# Altium schematic symbol library Sensor_Temperature.SchLib: 110 symbols
Pins are listed as number, name and electrical type; pins without a type are passive.

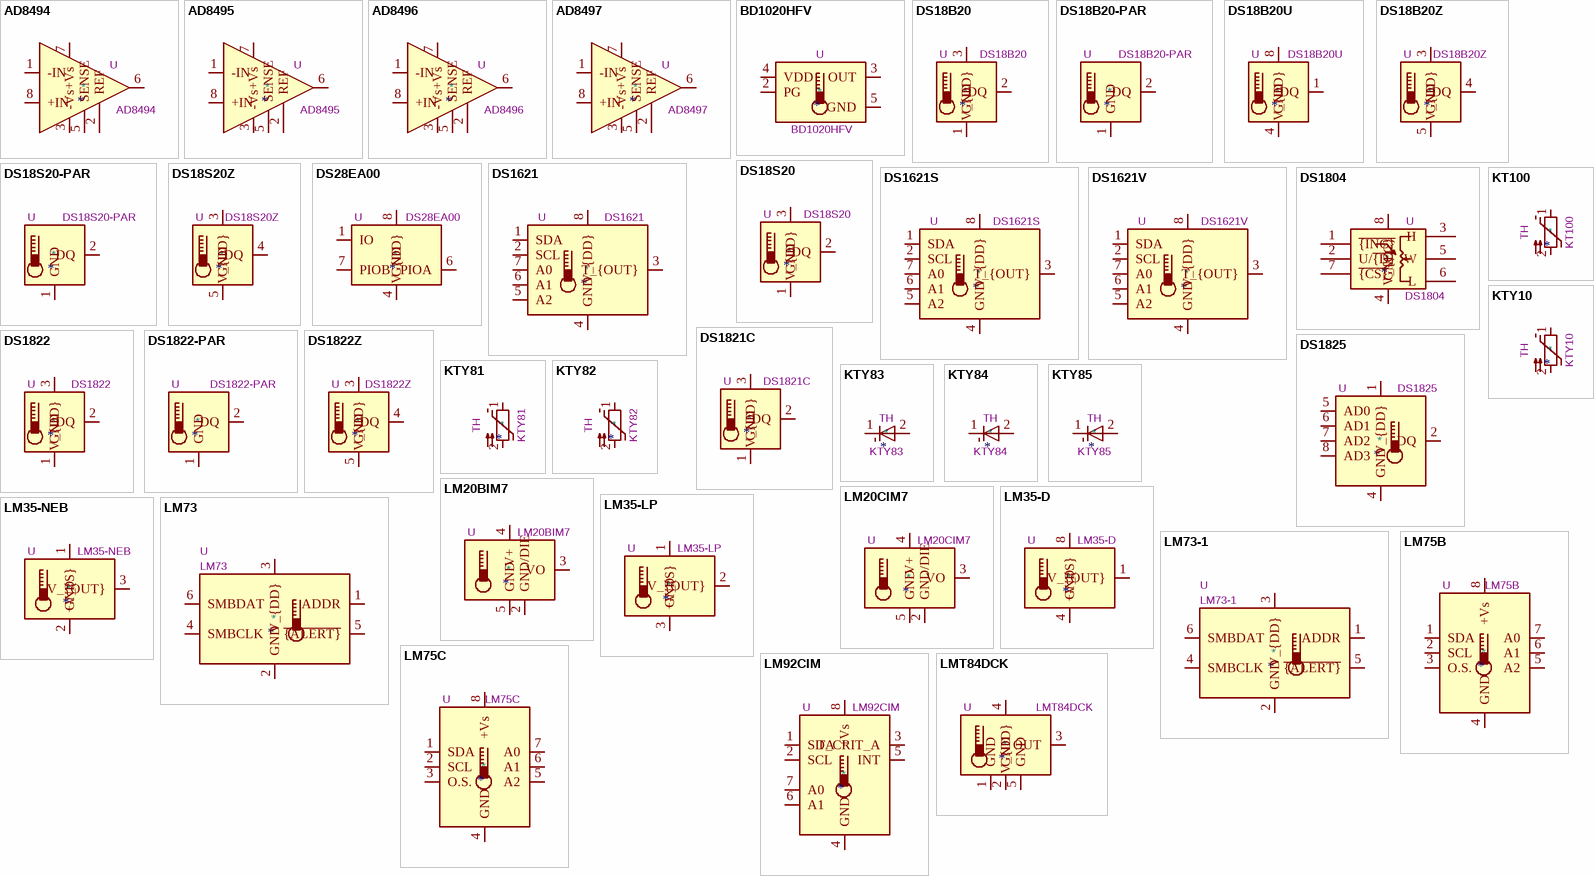
[diagram p0: symbols AD8494 to LMT84DCK]

## AD8494
designator *  value AD8494  Reference: U
ki_keywords: Thermocouple Amp; ki_description: Precision Thermocouple Amplifiers with Cold Junction Compensation, J-Type Thermocouple, 0 to 50C, MSOP-8; ki_fp_filters: MSOP*8*; Footprint: Package_SO:MSOP-8_3x3mm_P0.65mm; Datasheet: https://www.analog.com/media/en/technical-documentation/data-sheets/ad8494_8495_8496_8497.pdf
pins: 1 -IN, 2 REF, 3 -Vs, 4 NC hidden, 5 SENSE, 6, 7 +Vs, 8 +IN

## AD8495
designator *  value AD8495  Reference: U
ki_keywords: Thermocouple Amp; ki_description: Precision Thermocouple Amplifiers with Cold Junction Compensation, K-Type Thermocouple, 0 to 50C, MSOP-8; ki_fp_filters: MSOP*8*; Footprint: Package_SO:MSOP-8_3x3mm_P0.65mm; Datasheet: https://www.analog.com/media/en/technical-documentation/data-sheets/ad8494_8495_8496_8497.pdf
pins: 1 -IN, 2 REF, 3 -Vs, 4 NC hidden, 5 SENSE, 6, 7 +Vs, 8 +IN

## AD8496
designator *  value AD8496  Reference: U
ki_keywords: Thermocouple Amp; ki_description: Precision Thermocouple Amplifiers with Cold Junction Compensation, J-Type Thermocouple, 25 to 100C, MSOP-8; ki_fp_filters: MSOP*8*; Footprint: Package_SO:MSOP-8_3x3mm_P0.65mm; Datasheet: https://www.analog.com/media/en/technical-documentation/data-sheets/ad8494_8495_8496_8497.pdf
pins: 1 -IN, 2 REF, 3 -Vs, 4 NC hidden, 5 SENSE, 6, 7 +Vs, 8 +IN

## AD8497
designator *  value AD8497  Reference: U
ki_keywords: Thermocouple Amp; ki_description: Precision Thermocouple Amplifiers with Cold Junction Compensation, K-Type Thermocouple, 25 to 100C, MSOP-8; ki_fp_filters: MSOP*8*; Footprint: Package_SO:MSOP-8_3x3mm_P0.65mm; Datasheet: https://www.analog.com/media/en/technical-documentation/data-sheets/ad8494_8495_8496_8497.pdf
pins: 1 -IN, 2 REF, 3 -Vs, 4 NC hidden, 5 SENSE, 6, 7 +Vs, 8 +IN

## BD1020HFV
designator *  value BD1020HFV  Reference: U
ki_keywords: Temperature sensor; ki_description: Analog Output Temperature Sensor; ki_fp_filters: HVSOF5*; Footprint: Package_TO_SOT_SMD:HVSOF5; Datasheet: http://rohmfs.rohm.com/en/products/databook/datasheet/ic/sensor/temperature/bd1020hfv-e.pdf
pins: 1 NC hidden, 2 PG, 3 OUT, 4 VDD, 5 GND

## DS18B20
designator *  value DS18B20  Reference: U
ki_keywords: OneWire 1Wire Dallas Maxim; ki_description: Programmable Resolution 1-Wire Digital Thermometer TO-92; ki_fp_filters: TO*92*; Footprint: Package_TO_SOT_THT:TO-92_Inline; Datasheet: http://datasheets.maximintegrated.com/en/ds/DS18B20.pdf
pins: 1 GND, 2 DQ, 3 V_{DD}

## DS18B20-PAR
designator *  value DS18B20-PAR  Reference: U
ki_keywords: OneWire 1Wire Maxim Dallas; ki_description: 1-Wire Parasite-Power Digital Thermometer TO-92; ki_fp_filters: TO*92*; Footprint: Package_TO_SOT_THT:TO-92_Inline; Datasheet: http://datasheets.maximintegrated.com/en/ds/DS18B20-PAR.pdf
pins: 1 GND, 2 DQ, 3 NC hidden

## DS18B20U
designator *  value DS18B20U  Reference: U
ki_keywords: OneWire 1-Wire 1Wire Maxim Dallas; ki_description: Programmable Resolution 1-Wire Digital Thermometer MSOP-8; ki_fp_filters: MSOP*3x3mm*P0.65mm*; Footprint: Package_SO:MSOP-8_3x3mm_P0.65mm; Datasheet: http://datasheets.maximintegrated.com/en/ds/DS18B20.pdf
pins: 1 DQ, 2 NC hidden, 3 NC hidden, 4 GND, 5 NC hidden, 6 NC hidden, 7 NC hidden, 8 V_{DD}

## DS18B20Z
designator *  value DS18B20Z  Reference: U
ki_keywords: OneWire 1Wire Maxim Dallas; ki_description: Programmable Resolution 1-Wire Digital Thermometer SOIC-8; ki_fp_filters: SOIC*3.9x4.9mm*P1.27mm*; Footprint: Package_SO:SOIC-8_3.9x4.9mm_P1.27mm; Datasheet: http://datasheets.maximintegrated.com/en/ds/DS18B20.pdf
pins: 1 NC hidden, 2 NC hidden, 3 V_{DD}, 4 DQ, 5 GND, 6 NC hidden, 7 NC hidden, 8 NC hidden

## DS18S20
designator *  value DS18S20  Reference: U
ki_keywords: OneWire 1Wire Maxim Dallas; ki_description: High-Precision 1-Wire Digital Thermometer TO-92; ki_fp_filters: TO*92*; Footprint: Package_TO_SOT_THT:TO-92_Inline; Datasheet: http://datasheets.maximintegrated.com/en/ds/DS18S20.pdf
pins: 1 GND, 2 DQ, 3 V_{DD}

## DS18S20-PAR
designator *  value DS18S20-PAR  Reference: U
ki_keywords: OneWire 1Wire Maxim Dallas; ki_description: 1-Wire Parasite-Power Digital Thermometer TO-92; ki_fp_filters: TO*92*; Footprint: Package_TO_SOT_THT:TO-92_Inline; Datasheet: http://datasheets.maximintegrated.com/en/ds/DS18S20-PAR.pdf
pins: 1 GND, 2 DQ, 3 NC hidden

## DS18S20Z
designator *  value DS18S20Z  Reference: U
ki_keywords: OneWire 1Wire Dallas Maxim; ki_description: High-Precision 1-Wire Digital Thermometer SOIC-8; ki_fp_filters: SOIC*3.9x4.9mm*P1.27mm*; Footprint: Package_SO:SOIC-8_3.9x4.9mm_P1.27mm; Datasheet: http://datasheets.maximintegrated.com/en/ds/DS18S20.pdf
pins: 1 NC hidden, 2 NC hidden, 3 V_{DD}, 4 DQ, 5 GND, 6 NC hidden, 7 NC hidden, 8 NC hidden

## DS28EA00
designator *  value DS28EA00  Reference: U
ki_keywords: 1Wire OneWire Maxim Dallas; ki_description: 1-Wire Digital Thermometer with Sequence Detect and PIO; ki_fp_filters: MSOP*3x3mm*P0.65mm*; Footprint: Package_SO:MSOP-8_3x3mm_P0.65mm; Datasheet: http://datasheets.maximintegrated.com/en/ds/DS28EA00.pdf
pins: 1 IO, 2 NC hidden, 3 NC hidden, 4 GND, 5 NC hidden, 6 PIOA, 7 PIOB, 8 V_{DD}

## DS1621
designator *  value DS1621  Reference: U
ki_keywords: OneWire 1-Wire 1Wire Maxim Dallas; ki_description: 1-Wire Digital Thermometer and Thermostat, DIP-8; ki_fp_filters: DIP*W7.62mm*; Footprint: Package_DIP:DIP-8_W7.62mm; Datasheet: https://datasheets.maximintegrated.com/en/ds/DS1621.pdf
pins: 1 SDA, 2 SCL, 3 T_{OUT}, 4 GND, 5 A2, 6 A1, 7 A0, 8 V_{DD}

## DS1621S
designator *  value DS1621S  Reference: U
ki_keywords: OneWire 1-Wire 1Wire Maxim Dallas; ki_description: 1-Wire Digital Thermometer and Thermostat, SOIC-8; ki_fp_filters: SOIC*3.9x4.9mm*P1.27mm*; Footprint: Package_SO:SOIC-8_3.9x4.9mm_P1.27mm; Datasheet: https://datasheets.maximintegrated.com/en/ds/DS1621.pdf
pins: 1 SDA, 2 SCL, 3 T_{OUT}, 4 GND, 5 A2, 6 A1, 7 A0, 8 V_{DD}

## DS1621V
designator *  value DS1621V  Reference: U
ki_keywords: OneWire 1-Wire 1Wire Maxim Dallas; ki_description: 1-Wire Digital Thermometer and Thermostat, SO-8; ki_fp_filters: SO*5.3x6.2mm*P1.27mm*; Footprint: Package_SO:SO-8_5.3x6.2mm_P1.27mm; Datasheet: https://datasheets.maximintegrated.com/en/ds/DS1621.pdf
pins: 1 SDA, 2 SCL, 3 T_{OUT}, 4 GND, 5 A2, 6 A1, 7 A0, 8 V_{DD}

## DS1804
designator *  value DS1804  Reference: U
ki_description: Nonvolatile Trimmer Potentiometer, DIP-8; ki_fp_filters: DIP*W7.62mm*; Footprint: Package_DIP:DIP-8_W7.62mm; Datasheet: https://www.analog.com/media/en/technical-documentation/data-sheets/DS1804.pdf
pins: 1 ~{{INC}}, 2 U/~{{D}}, 3 H, 4 GND, 5 W, 6 L, 7 ~{{CS}}, 8 V_{CC}

## DS1821C
designator *  value DS1821C  Reference: U
ki_keywords: OneWire 1Wire Maxim Dallas; ki_description: Programmable Digital Thermostat and Thermometer TO-92; ki_fp_filters: TO*92*; Footprint: Package_TO_SOT_THT:TO-92_Inline; Datasheet: http://datasheets.maximintegrated.com/en/ds/DS1821.pdf
pins: 1 GND, 2 DQ, 3 V_{DD}

## DS1822
designator *  value DS1822  Reference: U
ki_keywords: OneWire 1Wire Dallas Maxim; ki_description: Econo 1-Wire Digital Thermometer TO-92; ki_fp_filters: TO*92*; Footprint: Package_TO_SOT_THT:TO-92_Inline; Datasheet: http://datasheets.maximintegrated.com/en/ds/DS1822.pdf
pins: 1 GND, 2 DQ, 3 V_{DD}

## DS1822-PAR
designator *  value DS1822-PAR  Reference: U
ki_keywords: OneWire 1Wire Maxim Dallas; ki_description: Econo 1-Wire Parasite-Power Digital Thermometer TO-92; ki_fp_filters: TO*92*; Footprint: Package_TO_SOT_THT:TO-92_Inline; Datasheet: http://datasheets.maximintegrated.com/en/ds/DS1822-PAR.pdf
pins: 1 GND, 2 DQ, 3 NC hidden

## DS1822Z
designator *  value DS1822Z  Reference: U
ki_keywords: OneWire 1-Wire 1Wire Maxim Dallas; ki_description: Econo 1-Wire Digital Thermometer SOIC-8; ki_fp_filters: SOIC*3.9x4.9mm*P1.27mm*; Footprint: Package_SO:SOIC-8_3.9x4.9mm_P1.27mm; Datasheet: http://datasheets.maximintegrated.com/en/ds/DS1822.pdf
pins: 1 NC hidden, 2 NC hidden, 3 V_{DD}, 4 DQ, 5 GND, 6 NC hidden, 7 NC hidden, 8 NC hidden

## DS1825
designator *  value DS1825  Reference: U
ki_keywords: 1Wire OneWire Maxim Dallas; ki_description: Programmable Resolution 1-Wire Digital Thermometer With 4-Bit ID MSOP-8; ki_fp_filters: MSOP*3x3mm*P0.65mm*; Footprint: Package_SO:MSOP-8_3x3mm_P0.65mm; Datasheet: http://datasheets.maximintegrated.com/en/ds/DS1825.pdf
pins: 1 V_{DD}, 2 DQ, 3 NC hidden, 4 GND, 5 AD0, 6 AD1, 7 AD2, 8 AD3

## KT100
designator *  value KT100  Reference: TH
ki_keywords: silicon temperature sensors; ki_description: KTY10/KT100 series silicon temperature sensors; ki_fp_filters: SOD?70*; Datasheet: http://www.b-kainka.de/Daten/Sensor/kty10.pdf
pins: 1, 2

## KTY10
designator *  value KTY10  Reference: TH
ki_keywords: silicon temperature sensors; ki_description: KTY10/KT100 series silicon temperature sensors; ki_fp_filters: SOD?70*; Datasheet: http://www.b-kainka.de/Daten/Sensor/kty10.pdf
pins: 1, 2

## KTY81
designator *  value KTY81  Reference: TH
ki_keywords: silicon temperature sensors; ki_description: KTY81 series silicon temperature sensors; ki_fp_filters: SOD?70*; Datasheet: https://www.nxp.com/docs/en/data-sheet/KTY81_SER.pdf
pins: 1, 2

## KTY82
designator *  value KTY82  Reference: TH
ki_keywords: silicon temperature sensors; ki_description: KTY82 series silicon temperature sensors, SOT-23; ki_fp_filters: SOT?23*; Footprint: Package_TO_SOT_SMD:SOT-23; Datasheet: https://www.nxp.com/docs/en/data-sheet/KTY82_SER.pdf
pins: 1, 2

## KTY83
designator *  value KTY83  Reference: TH
ki_keywords: silicon temperature sensors diode; ki_description: KTY83 series silicon temperature sensors, polarized, SOD68; ki_fp_filters: *DO?34*SOD68*; Footprint: Diode_THT:D_DO-34_SOD68_P7.62mm_Horizontal; Datasheet: https://www.nxp.com/docs/en/data-sheet/KTY83_SER.pdf
pins: 1 K, 2 A

## KTY84
designator *  value KTY84  Reference: TH
ki_keywords: silicon temperature sensor diode; ki_description: KTY84 series silicon temperature sensors, polarized, SOD68; ki_fp_filters: *DO?34*SOD68*; Footprint: Diode_THT:D_DO-34_SOD68_P7.62mm_Horizontal; Datasheet: https://www.nxp.com/docs/en/data-sheet/KTY84_SER.pdf
pins: 1 K, 2 A

## KTY85
designator *  value KTY85  Reference: TH
ki_keywords: silicon temperature sensor diode; ki_description: KTY85 series silicon temperature sensors, polarized, SOD80; ki_fp_filters: SOD80*; Footprint: Diode_SMD:D_MiniMELF; Datasheet: http://www.nxp.com/documents/other/SC17_GENERAL_TEMP_1996_3.pdf
pins: 1 K, 2 A

## LM20BIM7
designator *  value LM20BIM7  Reference: U
ki_keywords: temperature sensor thermistor; ki_description: Precision Temperature Sensor, Accuracy at 30°C ±1.5°C to ±4°C Maximum, SC70; ki_fp_filters: SOT?353*; Footprint: Package_TO_SOT_SMD:SOT-353_SC-70-5; Datasheet: http://www.ti.com/lit/ds/symlink/lm20.pdf
pins: 1 NC hidden, 2 GND/DIE, 3 VO, 4 V+, 5 GND

## LM20CIM7
designator *  value LM20CIM7  Reference: U
ki_keywords: temperature sensor thermistor; ki_description: Precision Temperature Sensor, Accuracy at 30°C ±4°C to ±5°C Maximum, SC70; ki_fp_filters: SOT?353*; Footprint: Package_TO_SOT_SMD:SOT-353_SC-70-5; Datasheet: http://www.ti.com/lit/ds/symlink/lm20.pdf
pins: 1 NC hidden, 2 GND/DIE, 3 VO, 4 V+, 5 GND

## LM35-D
designator *  value LM35-D  Reference: U
ki_keywords: temperature sensor thermistor; ki_description: Precision centigrade temperature sensor, SOIC-8; ki_fp_filters: SOIC*; Footprint: Package_SO:SOIC-8_3.9x4.9mm_P1.27mm; Datasheet: http://www.ti.com/lit/ds/symlink/lm35.pdf
pins: 1 V_{OUT}, 2 NC hidden, 3 NC hidden, 4 GND, 5 NC hidden, 6 NC hidden, 7 NC hidden, 8 +V_{S}

## LM35-LP
designator *  value LM35-LP  Reference: U
ki_keywords: temperature sensor thermistor; ki_description: Precision centigrade temperature sensor, TO-92; ki_fp_filters: TO?92*; Footprint: Package_TO_SOT_THT:TO-92_Inline; Datasheet: http://www.ti.com/lit/ds/symlink/lm35.pdf
pins: 1 +V_{S}, 2 V_{OUT}, 3 GND

## LM35-NEB
designator *  value LM35-NEB  Reference: U
ki_keywords: temperature sensor thermistor; ki_description: Precision centigrade temperature sensor, TO-220; ki_fp_filters: TO?220*; Footprint: Package_TO_SOT_THT:TO-220-3_Vertical; Datasheet: http://www.ti.com/lit/ds/symlink/lm35.pdf
pins: 1 +V_{S}, 2 GND, 3 V_{OUT}

## LM73
designator *  value LM73  Reference: U
ki_keywords: digital temperature sensor; ki_description: 11 to 14 Bit digital temperature sensor with 2 wire interface, SOT23-6; ki_fp_filters: SOT?23*; Footprint: Package_TO_SOT_SMD:SOT-23-6; Datasheet: http://www.ti.com/lit/ds/symlink/lm73.pdf
pins: 1 ADDR, 2 GND, 3 V_{DD}, 4 SMBCLK, 5 ~{{ALERT}}, 6 SMBDAT

## LM73-1
designator *  value LM73-1  Reference: U
ki_keywords: digital temperature sensor; ki_description: 11 to 14 Bit digital temperature sensor with 2 wire interface, SOT23-6; ki_fp_filters: SOT?23*; Footprint: Package_TO_SOT_SMD:SOT-23-6; Datasheet: http://www.ti.com/lit/ds/symlink/lm73.pdf
pins: 1 ADDR, 2 GND, 3 V_{DD}, 4 SMBCLK, 5 ~{{ALERT}}, 6 SMBDAT

## LM75B
designator *  value LM75B  Reference: U
ki_keywords: Temperature sensor; ki_description: Digital Temperature Sensor & Thermal Watchdog with LP on I2C and bus fault timeout, SOIC-8 and VSSOP-8; ki_fp_filters: SOIC*3.9x4.9mm*P1.27mm* VSSOP*3.0x3.0mm*P0.65mm*; Datasheet: http://www.ti.com/lit/ds/symlink/lm75b.pdf
pins: 1 SDA, 2 SCL, 3 O.S., 4 GND, 5 A2, 6 A1, 7 A0, 8 +Vs

## LM75C
designator *  value LM75C  Reference: U
ki_keywords: Temperature sensor; ki_description: Digital Temperature Sensor & Thermal Watchdog, SOIC-8 and VSSOP-8; ki_fp_filters: SOIC*3.9x4.9mm*P1.27mm* VSSOP*3.0x3.0mm*P0.65mm*; Datasheet: http://www.ti.com/lit/ds/symlink/lm75b.pdf
pins: 1 SDA, 2 SCL, 3 O.S., 4 GND, 5 A2, 6 A1, 7 A0, 8 +Vs

## LM92CIM
designator *  value LM92CIM  Reference: U
ki_keywords: temperature sensor; ki_description: Digital Temperature Sensor and Thermal Window Comparator With Two-Wire (I2C) Interface, SOIC-8; ki_fp_filters: SOIC*3.9x4.9mm*P1.27mm*; Footprint: Package_SO:SOIC-8_3.9x4.9mm_P1.27mm; Datasheet: https://www.ti.com/lit/ds/symlink/lm92.pdf
pins: 1 SDA, 2 SCL, 3 T_CRIT_A, 4 GND, 5 INT, 6 A1, 7 A0, 8 +Vs

## LMT84DCK
designator *  value LMT84DCK  Reference: U
ki_keywords: temperature sensor thermistor ntc; ki_description: Analog temperature sensor, NTC, 0.4C accuracy, -5.5mV/C, -50C to +150C, 1.5 to 5.5V, SC-70-5; ki_fp_filters: *SC?70*; Footprint: Package_TO_SOT_SMD:SOT-353_SC-70-5; Datasheet: http://www.ti.com/lit/ds/symlink/lmt84.pdf
pins: 1 GND, 2 GND, 3 OUT, 4 V_{DD}, 5 GND

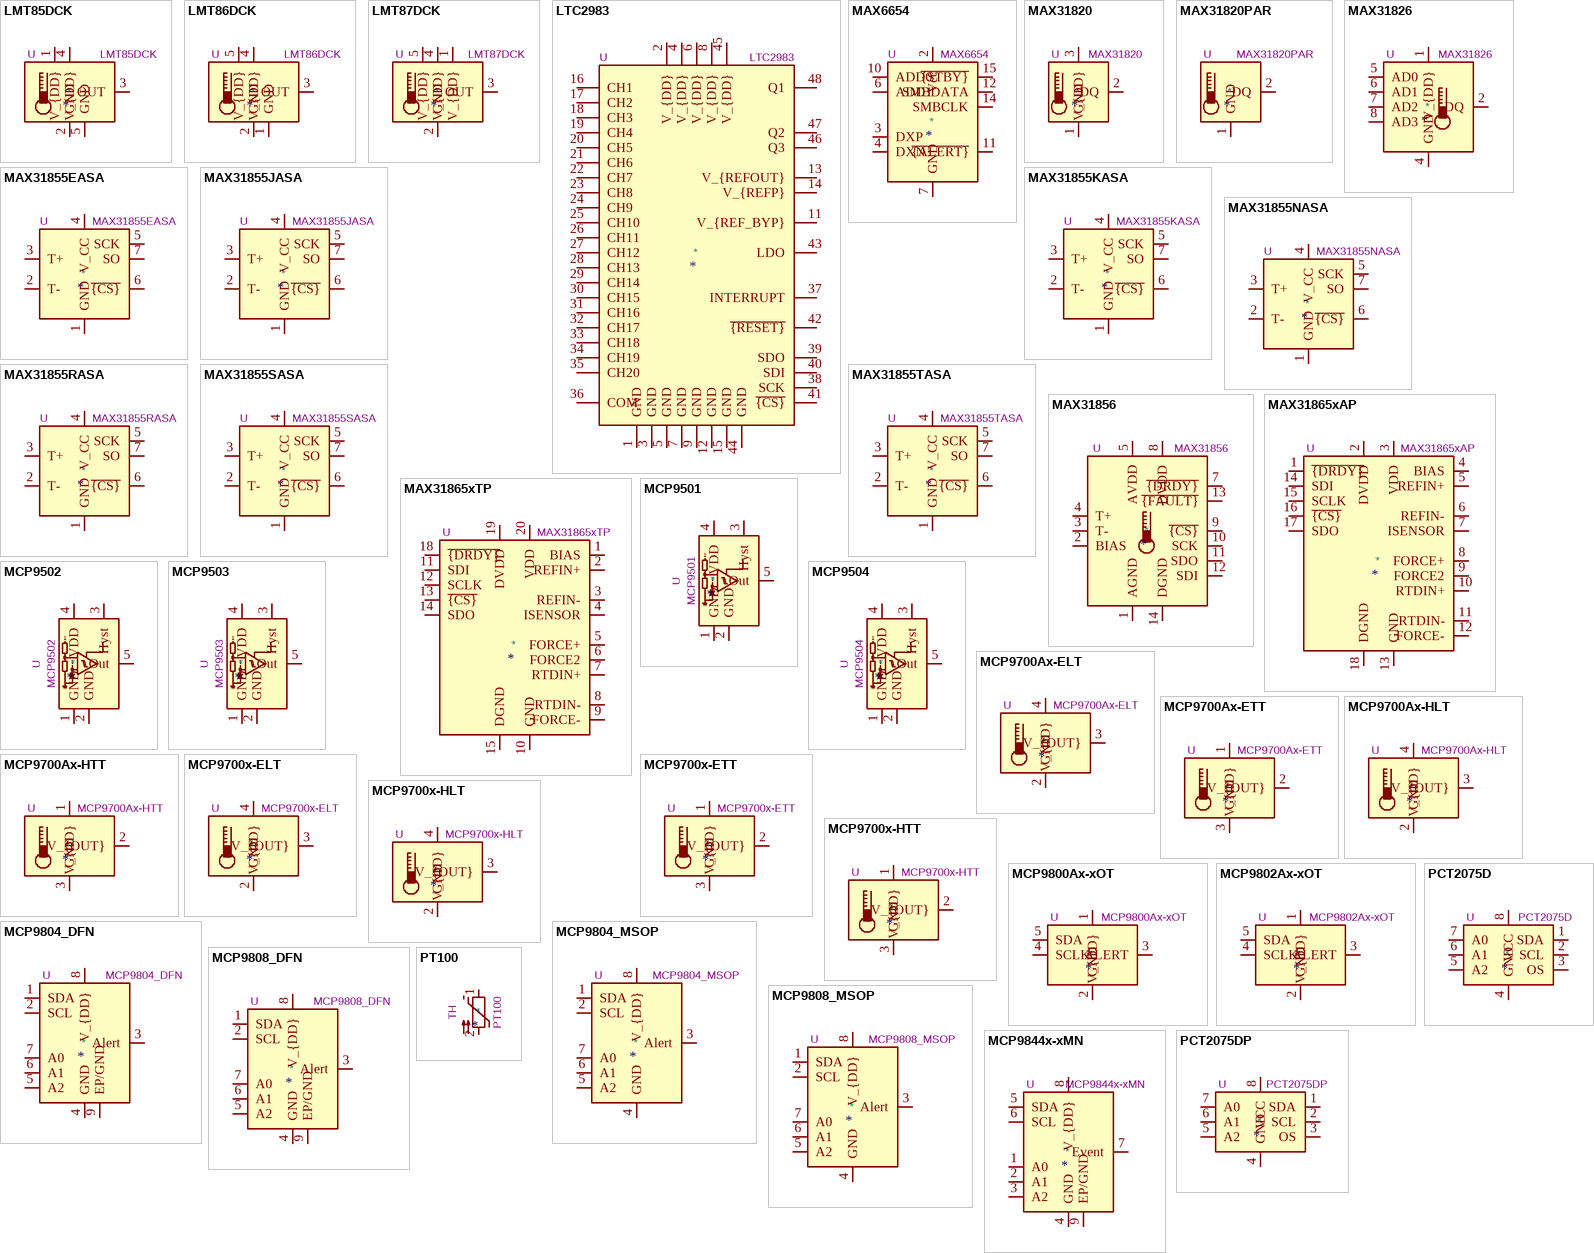
[diagram p1: symbols LMT85DCK to PT100]

## LMT85DCK
designator *  value LMT85DCK  Reference: U
ki_keywords: temperature sensor thermistor ntc; ki_description: Analog temperature sensor, NTC, 0.3C accuracy, -8.2mV/C, -50C to +150C, 1.8 to 5.5V, SC-70-5; ki_fp_filters: *SC?70*; Footprint: Package_TO_SOT_SMD:SOT-353_SC-70-5; Datasheet: http://www.ti.com/lit/ds/symlink/lmt85-q1.pdf
pins: 1 V_{DD}, 2 GND, 3 OUT, 4 V_{DD}, 5 GND

## LMT86DCK
designator *  value LMT86DCK  Reference: U
ki_keywords: temperature sensor thermistor ntc; ki_description: Analog temperature sensor, NTC, 0.25C accuracy, -10.9mV/C, -50C to +150C, 2.2 to 5.5V, SC-70-5; ki_fp_filters: *SC?70*; Footprint: Package_TO_SOT_SMD:SOT-353_SC-70-5; Datasheet: http://www.ti.com/lit/ds/symlink/lmt86-q1.pdf
pins: 1 GND, 2 GND, 3 OUT, 4 V_{DD}, 5 V_{DD}

## LMT87DCK
designator *  value LMT87DCK  Reference: U
ki_keywords: temperature sensor thermistor ntc; ki_description: Analog temperature sensor, NTC, 0.3C accuracy, -13.6mV/C, -50C to +150C, 2.7 to 5.5V, SC-70-5; ki_fp_filters: *SC?70*; Footprint: Package_TO_SOT_SMD:SOT-353_SC-70-5; Datasheet: http://www.ti.com/lit/ds/symlink/lmt87-q1.pdf
pins: 1 V_{DD}, 2 GND, 3 OUT, 4 V_{DD}, 5 V_{DD}

## LTC2983
designator *  value LTC2983  Reference: U
ki_keywords: Flexible Temperature Measurement RTD NTC Cold Junction Termocouple; ki_description: Multi-Sensor Temperature Measurement System, High Accuracy, LQFP-48 (7x7mm); ki_fp_filters: LQFP*7x7mm*P0.5mm*; Footprint: Package_QFP:LQFP-48_7x7mm_P0.5mm; Datasheet: https://www.analog.com/media/en/technical-documentation/data-sheets/2983fc.pdf
pins: 1 GND, 2 V_{DD}, 3 GND, 4 V_{DD}, 5 GND, 6 V_{DD}, 7 GND, 8 V_{DD}, 9 GND, 10 NC hidden, 11 V_{REF_BYP}, 12 GND, 13 V_{REFOUT}, 14 V_{REFP}, 15 GND, 16 CH1, 17 CH2, 18 CH3, 19 CH4, 20 CH5, 21 CH6, 22 CH7, 23 CH8, 24 CH9, 25 CH10, 26 CH11, 27 CH12, 28 CH13, 29 CH14, 30 CH15, 31 CH16, 32 CH17, 33 CH18, 34 CH19, 35 CH20, 36 COM, 37 INTERRUPT, 38 SCK, 39 SDO, 40 SDI, 41 ~{{CS}}, 42 ~{{RESET}}, 43 LDO, 44 GND, 45 V_{DD}, 46 Q3, 47 Q2, 48 Q1

## MAX6654
designator *  value MAX6654  Reference: U
ki_keywords: I2C SMBus Serial; ki_description: Remote and Local Temperature Sensor, SSOP-16; ki_fp_filters: *SOP*3.9x4.9mm*P0.635mm*; Footprint: Package_SO:SSOP-16_3.9x4.9mm_P0.635mm; Datasheet: https://datasheets.maximintegrated.com/en/ds/MAX6654.pdf
pins: 1 NC hidden, 2 Vcc, 3 DXP, 4 DXN, 5 NC hidden, 6 ADD1, 7 GND, 8 GND hidden, 9 NC hidden, 10 ADD0, 11 ~{{ALERT}}, 12 SMBDATA, 13 NC hidden, 14 SMBCLK, 15 ~{{STBY}}, 16 NC hidden

## MAX31820
designator *  value MAX31820  Reference: U
ki_keywords: OneWire 1-Wire 1Wire Maxim Dallas; ki_description: 1-Wire Ambient Temperature Sensor TO-92; ki_fp_filters: TO*92*; Footprint: Package_TO_SOT_THT:TO-92_Inline; Datasheet: http://datasheets.maximintegrated.com/en/ds/MAX31820.pdf
pins: 1 GND, 2 DQ, 3 V_{DD}

## MAX31820PAR
designator *  value MAX31820PAR  Reference: U
ki_keywords: OneWire 1-Wire 1Wire Maxim Dallas; ki_description: 1-Wire, Parasite-Power, Ambient Temperature Sensor TO-92; ki_fp_filters: TO*92*; Footprint: Package_TO_SOT_THT:TO-92_Inline; Datasheet: http://datasheets.maximintegrated.com/en/ds/MAX31820PAR.pdf
pins: 1 GND, 2 DQ, 3 NC hidden

## MAX31826
designator *  value MAX31826  Reference: U
ki_keywords: 1Wire OneWire Maxim Dallas; ki_description: 1-Wire Digital Temperature Sensor with 1Kb Lockable EEPROM MSOP-8; ki_fp_filters: MSOP*3x3mm*P0.65mm*; Footprint: Package_SO:MSOP-8_3x3mm_P0.65mm; Datasheet: http://datasheets.maximintegrated.com/en/ds/MAX31826.pdf
pins: 1 V_{DD}, 2 DQ, 3 NC hidden, 4 GND, 5 AD0, 6 AD1, 7 AD2, 8 AD3

## MAX31855EASA
designator *  value MAX31855EASA  Reference: U
ki_keywords: Cold Junction Termocouple Interface SPI; ki_description: Cold Junction E-type Termocouple Interface, SPI, SO8; ki_fp_filters: SOIC*3.9x4.9mm*P1.27mm*; Footprint: Package_SO:SOIC-8_3.9x4.9mm_P1.27mm; Datasheet: http://datasheets.maximintegrated.com/en/ds/MAX31855.pdf
pins: 1 GND, 2 T-, 3 T+, 4 V_CC, 5 SCK, 6 ~{{CS}}, 7 SO

## MAX31855JASA
designator *  value MAX31855JASA  Reference: U
ki_keywords: Cold Junction Termocouple Interface SPI; ki_description: Cold Junction J-type Termocouple Interface, SPI, SO8; ki_fp_filters: SOIC*3.9x4.9mm*P1.27mm*; Footprint: Package_SO:SOIC-8_3.9x4.9mm_P1.27mm; Datasheet: http://datasheets.maximintegrated.com/en/ds/MAX31855.pdf
pins: 1 GND, 2 T-, 3 T+, 4 V_CC, 5 SCK, 6 ~{{CS}}, 7 SO

## MAX31855KASA
designator *  value MAX31855KASA  Reference: U
ki_keywords: Cold Junction Termocouple Interface SPI; ki_description: Cold Junction K-type Termocouple Interface, SPI, SO8; ki_fp_filters: SOIC*3.9x4.9mm*P1.27mm*; Footprint: Package_SO:SOIC-8_3.9x4.9mm_P1.27mm; Datasheet: http://datasheets.maximintegrated.com/en/ds/MAX31855.pdf
pins: 1 GND, 2 T-, 3 T+, 4 V_CC, 5 SCK, 6 ~{{CS}}, 7 SO

## MAX31855NASA
designator *  value MAX31855NASA  Reference: U
ki_keywords: Cold Junction Termocouple Interface SPI; ki_description: Cold Junction N-type Termocouple Interface, SPI, SO8; ki_fp_filters: SOIC*3.9x4.9mm*P1.27mm*; Footprint: Package_SO:SOIC-8_3.9x4.9mm_P1.27mm; Datasheet: http://datasheets.maximintegrated.com/en/ds/MAX31855.pdf
pins: 1 GND, 2 T-, 3 T+, 4 V_CC, 5 SCK, 6 ~{{CS}}, 7 SO

## MAX31855RASA
designator *  value MAX31855RASA  Reference: U
ki_keywords: Cold Junction Termocouple Interface SPI; ki_description: Cold Junction R-type Termocouple Interface, SPI, SO8; ki_fp_filters: SOIC*3.9x4.9mm*P1.27mm*; Footprint: Package_SO:SOIC-8_3.9x4.9mm_P1.27mm; Datasheet: http://datasheets.maximintegrated.com/en/ds/MAX31855.pdf
pins: 1 GND, 2 T-, 3 T+, 4 V_CC, 5 SCK, 6 ~{{CS}}, 7 SO

## MAX31855SASA
designator *  value MAX31855SASA  Reference: U
ki_keywords: Cold Junction Termocouple Interface SPI; ki_description: Cold Junction S-type Termocouple Interface, SPI, SO8; ki_fp_filters: SOIC*3.9x4.9mm*P1.27mm*; Footprint: Package_SO:SOIC-8_3.9x4.9mm_P1.27mm; Datasheet: http://datasheets.maximintegrated.com/en/ds/MAX31855.pdf
pins: 1 GND, 2 T-, 3 T+, 4 V_CC, 5 SCK, 6 ~{{CS}}, 7 SO

## MAX31855TASA
designator *  value MAX31855TASA  Reference: U
ki_keywords: Cold Junction Termocouple Interface SPI; ki_description: Cold Junction T-type Termocouple Interface, SPI, SO8; ki_fp_filters: SOIC*3.9x4.9mm*P1.27mm*; Footprint: Package_SO:SOIC-8_3.9x4.9mm_P1.27mm; Datasheet: http://datasheets.maximintegrated.com/en/ds/MAX31855.pdf
pins: 1 GND, 2 T-, 3 T+, 4 V_CC, 5 SCK, 6 ~{{CS}}, 7 SO

## MAX31856
designator *  value MAX31856  Reference: U
ki_keywords: Thermocouple converter serial; ki_description: Precision Thermocouple to Digital Converter with Linearization, TSSOP-14; ki_fp_filters: TSSOP*14*4.4x5mm*P0.65mm*; Footprint: Package_SO:TSSOP-14_4.4x5mm_P0.65mm; Datasheet: https://datasheets.maximintegrated.com/en/ds/MAX31856.pdf
pins: 1 AGND, 2 BIAS, 3 T-, 4 T+, 5 AVDD, 6 DNC hidden, 7 ~{{DRDY}}, 8 DVDD, 9 ~{{CS}}, 10 SCK, 11 SDO, 12 SDI, 13 ~{{FAULT}}, 14 DGND

## MAX31865xAP
designator *  value MAX31865xAP  Reference: U
ki_keywords: RTD SPI Temperature; ki_description: RTD-to-Digital Converter, SSOP-20; ki_fp_filters: SSOP*P0.65mm*; Footprint: Package_SO:SSOP-20_5.3x7.2mm_P0.65mm; Datasheet: https://datasheets.maximintegrated.com/en/ds/MAX31865.pdf
pins: 1 ~{{DRDY}}, 2 DVDD, 3 VDD, 4 BIAS, 5 REFIN+, 6 REFIN-, 7 ISENSOR, 8 FORCE+, 9 FORCE2, 10 RTDIN+, 11 RTDIN-, 12 FORCE-, 13 GND, 14 SDI, 15 SCLK, 16 ~{{CS}}, 17 SDO, 18 DGND, 19 GND hidden, 20 NC hidden

## MAX31865xTP
designator *  value MAX31865xTP  Reference: U
ki_keywords: RTD SPI Temperature; ki_description: RTD-to-Digital Converter, TQFN-20; ki_fp_filters: TQFN*1EP*5x5mm*P0.65mm*; Footprint: Package_DFN_QFN:TQFN-20-1EP_5x5mm_P0.65mm_EP3.25x3.25mm; Datasheet: https://datasheets.maximintegrated.com/en/ds/MAX31865.pdf
pins: 1 BIAS, 2 REFIN+, 3 REFIN-, 4 ISENSOR, 5 FORCE+, 6 FORCE2, 7 RTDIN+, 8 RTDIN-, 9 FORCE-, 10 GND, 11 SDI, 12 SCLK, 13 ~{{CS}}, 14 SDO, 15 DGND, 16 GND hidden, 17 NC hidden, 18 ~{{DRDY}}, 19 DVDD, 20 VDD, 21 GND hidden

## MCP9501
designator *  value MCP9501  Reference: U
ki_keywords: Temperature Switch sensor; ki_description: Temperature Switch with Selectable Hysteresis, Open-Drain, Active-Low Output (Hot Option), SOT-23-5; ki_fp_filters: SOT?23*; Footprint: Package_TO_SOT_SMD:SOT-23-5; Datasheet: http://ww1.microchip.com/downloads/en/DeviceDoc/20002268B.pdf
pins: 1 GND, 2 GND, 3 Hyst, 4 VDD, 5 Out

## MCP9502
designator *  value MCP9502  Reference: U
ki_keywords: Temperature Switch sensor; ki_description: Temperature Switch with Selectable Hysteresis, Push-Pull, Active-High Output (Hot Option), SOT-23-5; ki_fp_filters: SOT?23*; Footprint: Package_TO_SOT_SMD:SOT-23-5; Datasheet: http://ww1.microchip.com/downloads/en/DeviceDoc/20002268B.pdf
pins: 1 GND, 2 GND, 3 Hyst, 4 VDD, 5 Out

## MCP9503
designator *  value MCP9503  Reference: U
ki_keywords: Temperature Switch sensor; ki_description: Temperature Switch with Selectable Hysteresis, Open-Drain, Active-Low Output (Cold Option), SOT-23-5; ki_fp_filters: SOT?23*; Footprint: Package_TO_SOT_SMD:SOT-23-5; Datasheet: http://ww1.microchip.com/downloads/en/DeviceDoc/20002268B.pdf
pins: 1 GND, 2 GND, 3 Hyst, 4 VDD, 5 Out

## MCP9504
designator *  value MCP9504  Reference: U
ki_keywords: Temperature Switch sensor; ki_description: Temperature Switch with Selectable Hysteresis, Push-Pull, Active-High Output (Cold Option), SOT-23-5; ki_fp_filters: SOT?23*; Footprint: Package_TO_SOT_SMD:SOT-23-5; Datasheet: http://ww1.microchip.com/downloads/en/DeviceDoc/20002268B.pdf
pins: 1 GND, 2 GND, 3 Hyst, 4 VDD, 5 Out

## MCP9700Ax-ELT
designator *  value MCP9700Ax-ELT  Reference: U
ki_keywords: temperature sensor thermistor; ki_description: Low power, analog thermistor temperature sensor, ±2C accuracy, -40C to +125C, in SC-70-5; ki_fp_filters: *SC?70*; Footprint: Package_TO_SOT_SMD:SOT-353_SC-70-5; Datasheet: http://ww1.microchip.com/downloads/en/DeviceDoc/20001942G.pdf
pins: 1 NC hidden, 2 GND, 3 V_{OUT}, 4 V_{DD}, 5 NC hidden

## MCP9700Ax-ETT
designator *  value MCP9700Ax-ETT  Reference: U
ki_keywords: temperature sensor thermistor; ki_description: Low power, analog thermistor temperature sensor, ±2C accuracy, -40C to +125C, in SOT-23-3; ki_fp_filters: SOT?23*; Footprint: Package_TO_SOT_SMD:SOT-23; Datasheet: http://ww1.microchip.com/downloads/en/devicedoc/20001942g.pdf
pins: 1 V_{DD}, 2 V_{OUT}, 3 GND

## MCP9700Ax-HLT
designator *  value MCP9700Ax-HLT  Reference: U
ki_keywords: temperature sensor thermistor; ki_description: Low power, analog thermistor temperature sensor, ±2C accuracy, -40C to +150C, in SC-70-5; ki_fp_filters: *SC?70*; Footprint: Package_TO_SOT_SMD:SOT-353_SC-70-5; Datasheet: http://ww1.microchip.com/downloads/en/devicedoc/20001942g.pdf
pins: 1 NC hidden, 2 GND, 3 V_{OUT}, 4 V_{DD}, 5 NC hidden

## MCP9700Ax-HTT
designator *  value MCP9700Ax-HTT  Reference: U
ki_keywords: temperature sensor thermistor; ki_description: Low power, analog thermistor temperature sensor, ±2C accuracy, -40C to +150C, in SOT-23-3; ki_fp_filters: SOT?23*; Footprint: Package_TO_SOT_SMD:SOT-23; Datasheet: http://ww1.microchip.com/downloads/en/devicedoc/20001942g.pdf
pins: 1 V_{DD}, 2 V_{OUT}, 3 GND

## MCP9700x-ELT
designator *  value MCP9700x-ELT  Reference: U
ki_keywords: temperature sensor thermistor; ki_description: Low power, analog thermistor temperature sensor, ±4C accuracy, -40C to +125C, in SC-70-5; ki_fp_filters: *SC?70*; Footprint: Package_TO_SOT_SMD:SOT-353_SC-70-5; Datasheet: http://ww1.microchip.com/downloads/en/devicedoc/20001942g.pdf
pins: 1 NC hidden, 2 GND, 3 V_{OUT}, 4 V_{DD}, 5 NC hidden

## MCP9700x-ETT
designator *  value MCP9700x-ETT  Reference: U
ki_keywords: temperature sensor thermistor; ki_description: Low power, analog thermistor temperature sensor, ±4C accuracy, -40C to +125C, in SOT-23-3; ki_fp_filters: SOT?23*; Footprint: Package_TO_SOT_SMD:SOT-23; Datasheet: http://ww1.microchip.com/downloads/en/devicedoc/20001942g.pdf
pins: 1 V_{DD}, 2 V_{OUT}, 3 GND

## MCP9700x-HLT
designator *  value MCP9700x-HLT  Reference: U
ki_keywords: temperature sensor thermistor; ki_description: Low power, analog thermistor temperature sensor, ±4C accuracy, -40C to +150C, in SC-70-5; ki_fp_filters: *SC?70*; Footprint: Package_TO_SOT_SMD:SOT-353_SC-70-5; Datasheet: http://ww1.microchip.com/downloads/en/devicedoc/20001942g.pdf
pins: 1 NC hidden, 2 GND, 3 V_{OUT}, 4 V_{DD}, 5 NC hidden

## MCP9700x-HTT
designator *  value MCP9700x-HTT  Reference: U
ki_keywords: temperature sensor thermistor; ki_description: Low power, analog thermistor temperature sensor, ±4C accuracy, -40C to +150C, in SOT-23-3; ki_fp_filters: SOT?23*; Footprint: Package_TO_SOT_SMD:SOT-23; Datasheet: http://ww1.microchip.com/downloads/en/devicedoc/20001942g.pdf
pins: 1 V_{DD}, 2 V_{OUT}, 3 GND

## MCP9800Ax-xOT
designator *  value MCP9800Ax-xOT  Reference: U
ki_keywords: I2C Temperature Sensor No Serial Bus time-out; ki_description: 2-Wire High-Accuracy Temperature Sensor, No Serial Bus time-out, SOT-23-5; ki_fp_filters: SOT?23*; Footprint: Package_TO_SOT_SMD:SOT-23-5; Datasheet: https://ww1.microchip.com/downloads/aemDocuments/documents/OTH/ProductDocuments/DataSheets/21909d.pdf
pins: 1 V_{DD}, 2 GND, 3 ALERT, 4 SCLK, 5 SDA

## MCP9802Ax-xOT
designator *  value MCP9802Ax-xOT  Reference: U
ki_keywords: I2C Temperature Sensor Serial Bus time-out; ki_description: 2-Wire High-Accuracy Temperature Sensor, Serial Bus time-out 35 ms, SOT-23-5; ki_fp_filters: SOT?23*; Footprint: Package_TO_SOT_SMD:SOT-23-5; Datasheet: https://ww1.microchip.com/downloads/aemDocuments/documents/OTH/ProductDocuments/DataSheets/21909d.pdf
pins: 1 V_{DD}, 2 GND, 3 ALERT, 4 SCLK, 5 SDA

## MCP9804_DFN
designator *  value MCP9804_DFN  Reference: U
ki_keywords: temperature sensor I2C; ki_description: +/-0.25C (+/-1C) Typical (Maximum), Digital Temperature Sensor, DFN-8; ki_fp_filters: DFN*1EP*3x2mm*P0.5mm*; Footprint: Package_DFN_QFN:DFN-8-1EP_3x2mm_P0.5mm_EP1.7x1.4mm; Datasheet: http://ww1.microchip.com/downloads/en/DeviceDoc/22203b.pdf
pins: 1 SDA, 2 SCL, 3 Alert, 4 GND, 5 A2, 6 A1, 7 A0, 8 V_{DD}, 9 EP/GND

## MCP9804_MSOP
designator *  value MCP9804_MSOP  Reference: U
ki_keywords: temperature sensor I2C; ki_description: +/-0.25C (+/-1C) Typical (Maximum), Digital Temperature Sensor, MSOP-8; ki_fp_filters: MSOP*3x3mm*P0.65mm*; Footprint: Package_SO:MSOP-8_3x3mm_P0.65mm; Datasheet: http://ww1.microchip.com/downloads/en/DeviceDoc/22203b.pdf
pins: 1 SDA, 2 SCL, 3 Alert, 4 GND, 5 A2, 6 A1, 7 A0, 8 V_{DD}

## MCP9808_DFN
designator *  value MCP9808_DFN  Reference: U
ki_keywords: temperature sensor I2C; ki_description: +/-0.25C (+/-0.5C) Typical (Maximum), Digital Temperature Sensor, DFN-8; ki_fp_filters: DFN*1EP*3x2mm*P0.5mm*; Footprint: Package_DFN_QFN:DFN-8-1EP_3x2mm_P0.5mm_EP1.7x1.4mm; Datasheet: http://ww1.microchip.com/downloads/en/DeviceDoc/MCP9808-0.5C-Maximum-Accuracy-Digital-Temperature-Sensor-Data-Sheet-DS20005095B.pdf
pins: 1 SDA, 2 SCL, 3 Alert, 4 GND, 5 A2, 6 A1, 7 A0, 8 V_{DD}, 9 EP/GND

## MCP9808_MSOP
designator *  value MCP9808_MSOP  Reference: U
ki_keywords: temperature sensor I2C; ki_description: +/-0.25C (+/-0.5C) Typical (Maximum), Digital Temperature Sensor, MSOP-8; ki_fp_filters: MSOP*3x3mm*P0.65mm*; Footprint: Package_SO:MSOP-8_3x3mm_P0.65mm; Datasheet: http://ww1.microchip.com/downloads/en/DeviceDoc/22203b.pdf
pins: 1 SDA, 2 SCL, 3 Alert, 4 GND, 5 A2, 6 A1, 7 A0, 8 V_{DD}

## MCP9844x-xMN
designator *  value MCP9844x-xMN  Reference: U
ki_keywords: I2C TWI; ki_description: ±1°C Accurate, 1.8V Digital Temperature Sensor, I²C, DFN-8; ki_fp_filters: DFN*3x2mm*P0.5mm*; Footprint: Package_DFN_QFN:DFN-8-1EP_3x2mm_P0.5mm_EP1.36x1.46mm; Datasheet: http://ww1.microchip.com/downloads/en/DeviceDoc/20005192B.pdf
pins: 1 A0, 2 A1, 3 A2, 4 GND, 5 SDA, 6 SCL, 7 Event, 8 V_{DD}, 9 EP/GND

## PCT2075D
designator *  value PCT2075D  Reference: U
ki_keywords: temperature sensor I2C single channel; ki_description: NXP I2C-bus Fm+ digital temperature sensor and thermal watchdog, SO-8; ki_fp_filters: SO*3.9x4.9mm*P1.27mm*; Footprint: Package_SO:SO-8_3.9x4.9mm_P1.27mm; Datasheet: https://www.nxp.com/docs/en/data-sheet/PCT2075.pdf
pins: 1 SDA, 2 SCL, 3 OS, 4 GND, 5 A2, 6 A1, 7 A0, 8 VCC

## PCT2075DP
designator *  value PCT2075DP  Reference: U
ki_keywords: temperature sensor I2C single channel; ki_description: NXP I2C-bus Fm+ digital temperature sensor and thermal watchdog, TSSOP-8; ki_fp_filters: TSSOP*3x3mm*P0.65mm*; Footprint: Package_SO:TSSOP-8_3x3mm_P0.65mm; Datasheet: https://www.nxp.com/docs/en/data-sheet/PCT2075.pdf
pins: 1 SDA, 2 SCL, 3 OS, 4 GND, 5 A2, 6 A1, 7 A0, 8 VCC

## PT100
designator *  value PT100  Reference: TH
ki_keywords: platinum temperature sensor RTD; ki_description: PT100 platinum temperature sensor (RTD); ki_fp_filters: TO?92* PIN?ARRAY* bornier* Terminal?Block* SOD70* R*1206* R*0805*; Datasheet: https://www.heraeus.com/media/media/group/doc_group/products_1/hst/sot_to/de_15/to_92_d.pdf
pins: 1, 2

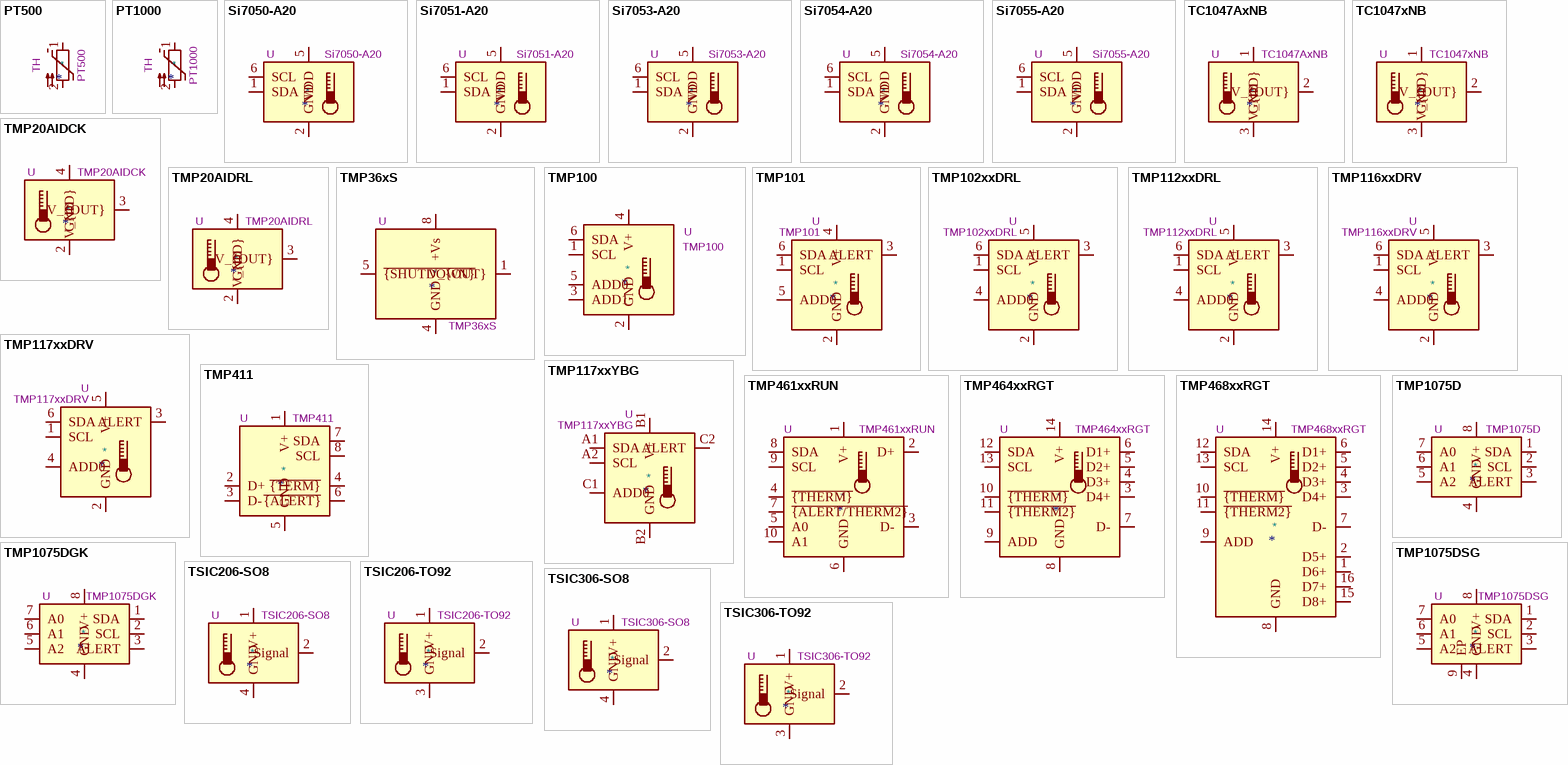
[diagram p2: symbols PT500 to TSIC306-TO92]

## PT500
designator *  value PT500  Reference: TH
ki_keywords: platinum temperature sensor RTD; ki_description: PT500 platinum temperature sensor (RTD); ki_fp_filters: TO?92* PIN?ARRAY* bornier* Terminal?Block* SOD70* R*1206* R*0805*; Datasheet: https://www.heraeus.com/media/media/group/doc_group/products_1/hst/sot_to/de_15/to_92_d.pdf
pins: 1, 2

## PT1000
designator *  value PT1000  Reference: TH
ki_keywords: platinum temperature sensor RTD; ki_description: PT1000 platinum temperature sensor (RTD); ki_fp_filters: TO?92* PIN?ARRAY* bornier* Terminal?Block* SOD70* R*1206* R*0805*; Datasheet: https://www.heraeus.com/media/media/group/doc_group/products_1/hst/sot_to/de_15/to_92_d.pdf
pins: 1, 2

## Si7050-A20
designator *  value Si7050-A20  Reference: U
ki_keywords: I2C Temperature Sensor; ki_description: I2C Temperature Sensor, ±1.0ºC, DFN-6; ki_fp_filters: DFN*1EP*3x3mm*P1mm*; Footprint: Package_DFN_QFN:DFN-6-1EP_3x3mm_P1mm_EP1.65x2.55mm; Datasheet: https://www.silabs.com/documents/public/data-sheets/Si7050-1-3-4-5-A20.pdf
pins: 1 SDA, 2 GND, 3 NC hidden, 4 NC hidden, 5 VDD, 6 SCL

## Si7051-A20
designator *  value Si7051-A20  Reference: U
ki_keywords: I2C Temperature Sensor; ki_description: I2C Temperature Sensor, ±0.1ºC, DFN-6; ki_fp_filters: DFN*1EP*3x3mm*P1mm*; Footprint: Package_DFN_QFN:DFN-6-1EP_3x3mm_P1mm_EP1.65x2.55mm; Datasheet: https://www.silabs.com/documents/public/data-sheets/Si7050-1-3-4-5-A20.pdf
pins: 1 SDA, 2 GND, 3 NC hidden, 4 NC hidden, 5 VDD, 6 SCL

## Si7053-A20
designator *  value Si7053-A20  Reference: U
ki_keywords: I2C Temperature Sensor; ki_description: I2C Temperature Sensor, ±0.3ºC, DFN-6; ki_fp_filters: DFN*1EP*3x3mm*P1mm*; Footprint: Package_DFN_QFN:DFN-6-1EP_3x3mm_P1mm_EP1.65x2.55mm; Datasheet: https://www.silabs.com/documents/public/data-sheets/Si7050-1-3-4-5-A20.pdf
pins: 1 SDA, 2 GND, 3 NC hidden, 4 NC hidden, 5 VDD, 6 SCL

## Si7054-A20
designator *  value Si7054-A20  Reference: U
ki_keywords: I2C Temperature Sensor; ki_description: I2C Temperature Sensor, ±0.4ºC, DFN-6; ki_fp_filters: DFN*1EP*3x3mm*P1mm*; Footprint: Package_DFN_QFN:DFN-6-1EP_3x3mm_P1mm_EP1.65x2.55mm; Datasheet: https://www.silabs.com/documents/public/data-sheets/Si7050-1-3-4-5-A20.pdf
pins: 1 SDA, 2 GND, 3 NC hidden, 4 NC hidden, 5 VDD, 6 SCL

## Si7055-A20
designator *  value Si7055-A20  Reference: U
ki_keywords: I2C Temperature Sensor; ki_description: I2C Temperature Sensor, ±0.5ºC, DFN-6; ki_fp_filters: DFN*1EP*3x3mm*P1mm*; Footprint: Package_DFN_QFN:DFN-6-1EP_3x3mm_P1mm_EP1.65x2.55mm; Datasheet: https://www.silabs.com/documents/public/data-sheets/Si7050-1-3-4-5-A20.pdf
pins: 1 SDA, 2 GND, 3 NC hidden, 4 NC hidden, 5 VDD, 6 SCL

## TC1047AxNB
designator *  value TC1047AxNB  Reference: U
ki_keywords: temperature sensor analog; ki_description: Precision Temperature-to-Voltage Converter, 10mV/ºC, -40ºC to +125ºC, ±2.0ºC (max), 2.5V to 5.5V, SOT-23; ki_fp_filters: SOT?23*; Footprint: Package_TO_SOT_SMD:SOT-23; Datasheet: http://ww1.microchip.com/downloads/en/DeviceDoc/21498D.pdf
pins: 1 V_{DD}, 2 V_{OUT}, 3 GND

## TC1047xNB
designator *  value TC1047xNB  Reference: U
ki_keywords: temperature sensor analog; ki_description: Precision Temperature-to-Voltage Converter, 10mV/ºC, -40ºC to +125ºC, ±2.0ºC (max), 2.7V to 4.4V, SOT-23; ki_fp_filters: SOT?23*; Footprint: Package_TO_SOT_SMD:SOT-23; Datasheet: http://ww1.microchip.com/downloads/en/DeviceDoc/21498D.pdf
pins: 1 V_{DD}, 2 V_{OUT}, 3 GND

## TMP20AIDCK
designator *  value TMP20AIDCK  Reference: U
ki_keywords: temperature sensor thermistor; ki_description: Analog thermistor temperature sensor, ±2.5C accuracy, -55C to +130C, SC-70-5; ki_fp_filters: *SC?70*; Footprint: Package_TO_SOT_SMD:SOT-353_SC-70-5; Datasheet: http://www.ti.com/lit/ds/symlink/tmp20.pdf
pins: 1 NC hidden, 2 GND, 3 V_{OUT}, 4 V_{DD}, 5 GND hidden

## TMP20AIDRL
designator *  value TMP20AIDRL  Reference: U
ki_keywords: temperature sensor thermistor; ki_description: Analog thermistor temperature sensor, ±2.5C accuracy, -55C to +130C, SOT-563-6; ki_fp_filters: SOT?563*; Footprint: Package_TO_SOT_SMD:SOT-563; Datasheet: http://www.ti.com/lit/ds/symlink/tmp20.pdf
pins: 1 NC hidden, 2 GND, 3 V_{OUT}, 4 V_{DD}, 5 NC hidden, 6 GND hidden

## TMP36xS
designator *  value TMP36xS  Reference: U
ki_keywords: Temperature Sensor SOIC-8; ki_description: Low Voltage Temperature Sensor, SOIC-8; ki_fp_filters: SOIC?8*3.9x4.9mm*P1.27mm*; Footprint: Package_SO:SOIC-8_3.9x4.9mm_P1.27mm; Datasheet: https://www.analog.com/media/en/technical-documentation/data-sheets/TMP35_36_37.pdf
pins: 1 V_{OUT}, 4 GND, 5 ~{{SHUTDOWN}}, 8 +Vs

## TMP100
designator *  value TMP100  Reference: U
ki_keywords: temperature sensor i2c smbus; ki_description: Temperature Sensor with I2C/SMBus Interface, SOT-23-6; ki_fp_filters: SOT?23*; Footprint: Package_TO_SOT_SMD:SOT-23-6; Datasheet: http://www.ti.com/lit/gpn/tmp100
pins: 1 SCL, 2 GND, 3 ADD1, 4 V+, 5 ADD0, 6 SDA

## TMP101
designator *  value TMP101  Reference: U
ki_keywords: digital temperature sensor i2c smbus; ki_description: Digital Temperature Sensor with I2C/SMBus Interface, +/-2° C, one-shot conversion, alert, SOT-23-6; ki_fp_filters: SOT?23*; Footprint: Package_TO_SOT_SMD:SOT-23-6; Datasheet: https://www.ti.com/lit/ds/symlink/tmp101.pdf
pins: 1 SCL, 2 GND, 3 ALERT, 4 V+, 5 ADD0, 6 SDA

## TMP102xxDRL
designator *  value TMP102xxDRL  Reference: U
ki_keywords: digital temperature sensor i2c smbus; ki_description: Digital Temperature Sensor, +/- 3 °C, low-Power, SMBus, 12 bit, Two-Wire Serial Interface, SOT-563; ki_fp_filters: SOT?563*; Footprint: Package_TO_SOT_SMD:SOT-563; Datasheet: https://www.ti.com/lit/ds/symlink/tmp102.pdf
pins: 1 SCL, 2 GND, 3 ALERT, 4 ADD0, 5 V+, 6 SDA

## TMP112xxDRL
designator *  value TMP112xxDRL  Reference: U
ki_keywords: digital temperature sensor i2c smbus two-wire nist; ki_description: Digital Temperature Sensor with I2C/SMBus/Two-wire Interface, 12 bits, +/-1° C, one-shot conversion, alert, nist traceable, SOT-563; ki_fp_filters: SOT?563*; Footprint: Package_TO_SOT_SMD:SOT-563; Datasheet: https://www.ti.com/lit/ds/symlink/tmp112.pdf
pins: 1 SCL, 2 GND, 3 ALERT, 4 ADD0, 5 V+, 6 SDA

## TMP116xxDRV
designator *  value TMP116xxDRV  Reference: U
ki_keywords: digital temperature sensor i2c smbus nist; ki_description: Digital Temperature Sensor with I2C/SMBus Interface, 16 bits, +/-0.3° C,  one-shot conversion, alert, nist traceable, EEPROM, WSON; ki_fp_filters: WSON*1EP?2x2mm?P0.65mm?EP1x1.6mm*; Footprint: Package_SON:WSON-6-1EP_2x2mm_P0.65mm_EP1x1.6mm; Datasheet: https://www.ti.com/lit/ds/symlink/tmp116.pdf
pins: 1 SCL, 2 GND, 3 ALERT, 4 ADD0, 5 V+, 6 SDA

## TMP117xxDRV
designator *  value TMP117xxDRV  Reference: U
ki_keywords: digital temperature sensor i2c smbus nist; ki_description: Digital Temperature Sensor with I2C/SMBus Interface, 16 bits, +/-0.3° C, one-shot conversion, alert, nist traceable, EEPROM, WSON; ki_fp_filters: WSON*1EP?2x2mm?P0.65mm?EP1x1.6mm*; Footprint: Package_SON:WSON-6-1EP_2x2mm_P0.65mm_EP1x1.6mm; Datasheet: https://www.ti.com/lit/ds/symlink/tmp117.pdf
pins: 1 SCL, 2 GND, 3 ALERT, 4 ADD0, 5 V+, 6 SDA

## TMP117xxYBG
designator *  value TMP117xxYBG  Reference: U
ki_keywords: digital temperature sensor i2c smbus; ki_description: Digital Temperature Sensor with I2C/SMBus Interface, 16 bits, +/-0.3° C, one-shot conversion, alert, nist traceable, EEPROM, DSBGA; ki_fp_filters: Texas?DSBGA?6?0.95x1.488mm?Layout2x3?P0.4mm*; Footprint: Package_BGA:Texas_DSBGA-6_0.95x1.488mm_Layout2x3_P0.4mm; Datasheet: https://www.ti.com/lit/ds/symlink/tmp117.pdf
pins: A1 SDA, A2 SCL, B1 V+, B2 GND, C1 ADD0, C2 ALERT

## TMP411
designator *  value TMP411  Reference: U
ki_keywords: Temperature sensor remote local i2c; ki_description: - Remote and Local TEMPERATURE SENSOR; ki_fp_filters: SOIC*3.9x4.9mm*P1.27mm* VSSOP*3.0x3.0mm*P0.65mm*; Datasheet: http://www.ti.com.cn/cn/lit/ds/symlink/tmp411.pdf
pins: 1 V+, 2 D+, 3 D-, 4 ~{{TERM}}, 5 GND, 6 ~{{ALERT}}, 7 SDA, 8 SCL

## TMP461xxRUN
designator *  value TMP461xxRUN  Reference: U
ki_keywords: Temperature sensor remote I2C TI; ki_description: Texas Instruments High-Accuracy Remote and Local Temperature Sensor with Pin-Programmable Bus Address, WQFN-10; ki_fp_filters: *WQFN*2x2mm*P0.5mm*; Footprint: Package_DFN_QFN:Texas_WQFN-10_2x2mm_P0.5mm; Datasheet: https://www.ti.com/lit/ds/symlink/tmp461.pdf
pins: 1 V+, 2 D+, 3 D-, 4 ~{{THERM}}, 5 A0, 6 GND, 7 ~{{ALERT/THERM2}}, 8 SDA, 9 SCL, 10 A1

## TMP464xxRGT
designator *  value TMP464xxRGT  Reference: U
ki_keywords: Temperature sensor remote I2C TI; ki_description: Texas Instruments 5-Channel (4-Remote and 1-Local), High-Accuracy Temperature Sensor with Pin-Programmable Bus Address, VQFN-16; ki_fp_filters: *QFN*1EP*3x3mm*P0.5mm*; Footprint: Package_DFN_QFN:VQFN-16-1EP_3x3mm_P0.5mm_EP1.68x1.68mm; Datasheet: https://www.ti.com/lit/ds/symlink/tmp464.pdf
pins: 1 NC hidden, 2 NC hidden, 3 D4+, 4 D3+, 5 D2+, 6 D1+, 7 D-, 8 GND, 9 ADD, 10 ~{{THERM}}, 11 ~{{THERM2}}, 12 SDA, 13 SCL, 14 V+, 15 NC hidden, 16 NC hidden, 17 GND hidden

## TMP468xxRGT
designator *  value TMP468xxRGT  Reference: U
ki_keywords: Temperature sensor remote I2C TI; ki_description: Texas Instruments 9-Channel (8-Remote and 1-Local), High-Accuracy Temperature Sensor with Pin-Programmable Bus Address, VQFN-16; ki_fp_filters: *QFN*1EP*3x3mm*P0.5mm*; Footprint: Package_DFN_QFN:VQFN-16-1EP_3x3mm_P0.5mm_EP1.68x1.68mm; Datasheet: https://www.ti.com/lit/ds/symlink/tmp468.pdf
pins: 1 D6+, 2 D5+, 3 D4+, 4 D3+, 5 D2+, 6 D1+, 7 D-, 8 GND, 9 ADD, 10 ~{{THERM}}, 11 ~{{THERM2}}, 12 SDA, 13 SCL, 14 V+, 15 D8+, 16 D7+, 17 GND hidden

## TMP1075D
designator *  value TMP1075D  Reference: U
ki_keywords: temperature sensor I2C single channel; ki_description: I2C-bus digital temperature sensor and thermal watchdog, SO-8; ki_fp_filters: SO*3.9x4.9mm*P1.27mm*; Footprint: Package_SO:SO-8_3.9x4.9mm_P1.27mm; Datasheet: https://www.ti.com/lit/gpn/tmp1075
pins: 1 SDA, 2 SCL, 3 ALERT, 4 GND, 5 A2, 6 A1, 7 A0, 8 V+

## TMP1075DGK
designator *  value TMP1075DGK  Reference: U
ki_keywords: temperature sensor I2C single channel; ki_description: I2C-bus digital temperature sensor and thermal watchdog, VSSOP-8; ki_fp_filters: VSSOP*3.0x3.0mm*P0.65mm*; Footprint: Package_SO:VSSOP-8_3.0x3.0mm_P0.65mm; Datasheet: https://www.ti.com/lit/gpn/tmp1075
pins: 1 SDA, 2 SCL, 3 ALERT, 4 GND, 5 A2, 6 A1, 7 A0, 8 V+

## TMP1075DSG
designator *  value TMP1075DSG  Reference: U
ki_keywords: temperature sensor I2C single channel; ki_description: I2C-bus digital temperature sensor and thermal watchdog, WSON-8; ki_fp_filters: WSON*1EP*2x2mm*P0.5mm*; Footprint: Package_SON:WSON-8-1EP_2x2mm_P0.5mm_EP0.9x1.6mm_ThermalVias; Datasheet: https://www.ti.com/lit/gpn/tmp1075
pins: 1 SDA, 2 SCL, 3 ALERT, 4 GND, 5 A2, 6 A1, 7 A0, 8 V+, 9 EP

## TSIC206-SO8
designator *  value TSIC206-SO8  Reference: U
ki_keywords: temperature digital; ki_description: Digital temperature sensor, range -50 ... +150 °C, 0.5 K accuracy, SO-8; ki_fp_filters: SOIC*3.9x4.9mm*P1.27mm*; Footprint: Package_SO:SOIC-8_3.9x4.9mm_P1.27mm; Datasheet: https://shop.bb-sensors.com/out/media/Datasheet_Digital_Semiconductor_temperatur_sensor_TSIC.pdf
pins: 1 V+, 2 Signal, 3 NC hidden, 4 GND, 5 NC hidden, 6 NC hidden, 7 NC hidden, 8 NC hidden

## TSIC206-TO92
designator *  value TSIC206-TO92  Reference: U
ki_keywords: temperature digital; ki_description: Digital temperature sensor, range -50 ... +150 °C, 0.5 K accuracy, TO-92; ki_fp_filters: TO?92*; Footprint: Package_TO_SOT_THT:TO-92_Inline; Datasheet: https://shop.bb-sensors.com/out/media/Datasheet_Digital_Semiconductor_temperatur_sensor_TSIC.pdf
pins: 1 V+, 2 Signal, 3 GND

## TSIC306-SO8
designator *  value TSIC306-SO8  Reference: U
ki_keywords: temperature digital; ki_description: Digital temperature sensor, range -50 ... +150 °C, 0.3 K accuracy, SO-8; ki_fp_filters: SOIC*3.9x4.9mm*P1.27mm*; Footprint: Package_SO:SOIC-8_3.9x4.9mm_P1.27mm; Datasheet: https://shop.bb-sensors.com/out/media/Datasheet_Digital_Semiconductor_temperatur_sensor_TSIC.pdf
pins: 1 V+, 2 Signal, 3 NC hidden, 4 GND, 5 NC hidden, 6 NC hidden, 7 NC hidden, 8 NC hidden

## TSIC306-TO92
designator *  value TSIC306-TO92  Reference: U
ki_keywords: temperature digital; ki_description: Digital temperature sensor, range -50 ... +150 °C, 0.3 K accuracy, TO-92; ki_fp_filters: TO?92*; Footprint: Package_TO_SOT_THT:TO-92_Inline; Datasheet: https://shop.bb-sensors.com/out/media/Datasheet_Digital_Semiconductor_temperatur_sensor_TSIC.pdf
pins: 1 V+, 2 Signal, 3 GND